# EAGLE library part 8-PIN_MIC (library NewSDR)
8-PIN Microphone Connector PC to Flat Cable Adapter
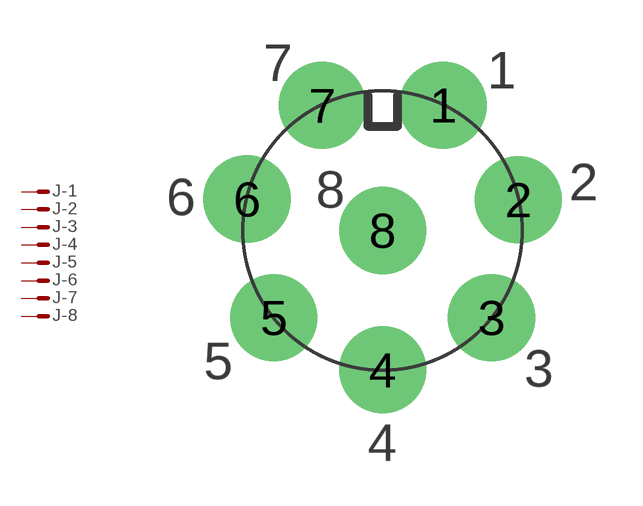
[diagram p72: symbol with the pads of 8-PIN_MIC; footprint 8-PIN_MIC]

Designator prefix J; gates -1=M -2=M -3=M -4=M -5=M -6=M -7=M -8=M

## 8-PIN_MIC  [8-PIN_MIC]
1  -1:M  pas
2  -2:M  pas
3  -3:M  pas
4  -4:M  pas
5  -5:M  pas
6  -6:M  pas
7  -7:M  pas
8  -8:M  pas

## Footprint 8-PIN_MIC (pad centres in mm)
PC Adapter for 8-Pin Microphone Connector
drill 1.981: 1 2.057,4.267; 2 4.623,1.041; 3 3.708,-2.972; 4 0,-4.75; 5 -3.708,-2.972; 6 -4.623,1.067; 7 -2.057,4.267; 8 0,0